# Altium schematic symbol library STF202.SchLib: 1 symbol
Pins are listed as number, name and electrical type; pins without a type are passive.

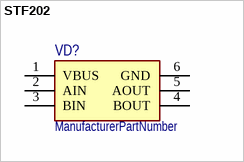
[diagram p0: symbol STF202]

## STF202
designator VD?  (value not drawn)
ManufacturerPartNumber: ManufacturerPartNumber
pins: 1 VBUS, 2 AIN, 3 BIN, 4 BOUT, 5 AOUT, 6 GND (power)